# Altium schematic symbol library Power-BMIC-PW4284.SchLib: 1 symbol
Pins are listed as number, name and electrical type; pins without a type are passive.

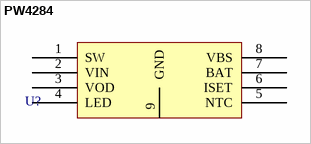
[diagram p0: symbol PW4284]

## PW4284
designator U?
pins: 1 SW, 2 VIN, 3 VOD, 4 LED, 5 NTC, 6 ISET, 7 BAT, 8 VBS, 9 GND